# Altium footprint library M0M10XP0.PcbLib: 1 footprints
Each footprint in its own frame and in the unit in brackets; x right, y up, seen from the top. Pads: shape width x height; smd on the part's side, far side on the other; paste and mask are expansions set on the pad; w line width, h text height; cw(c..) or ccw(c..) is an arc to the next point about the centre after c.
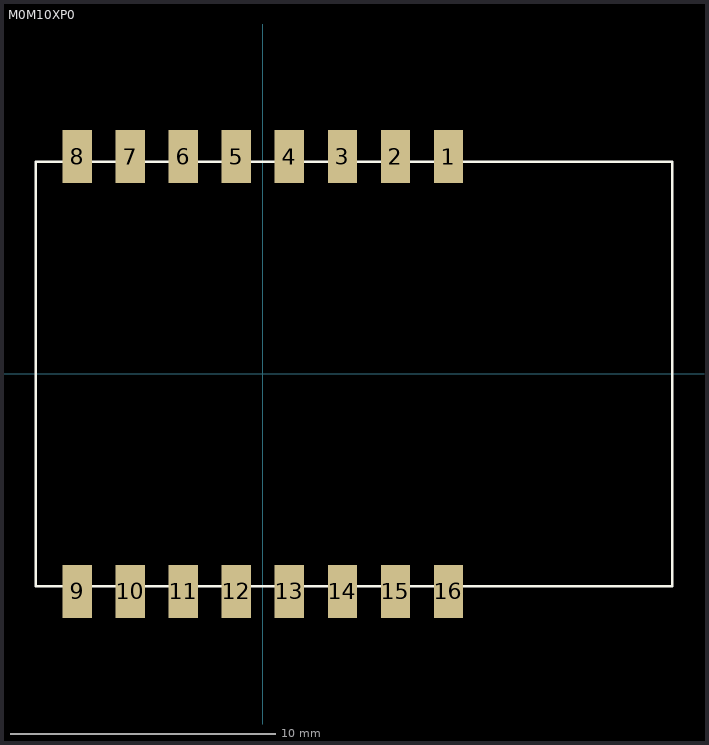
[diagram p0: the footprint, top view; thin cyan lines are the x and y axes]

## M0M10XP0 [mm] "M0M10XP0"
height 3.048
pads (16):
  rect 1.1x2 smd: 1(7,8.2) 2(5,8.2) 3(3,8.2) 4(1,8.2) 5(-1,8.2) 6(-3,8.2) 7(-5,8.2) 8(-7,8.2) 9(-7,-8.2) 10(-5,-8.2) 11(-3,-8.2) 12(-1,-8.2) 13(1,-8.2) 14(3,-8.2) 15(5,-8.2) 16(7,-8.2)
Top Overlay:
  lines w0.1: -8.56,-8 -8.56,8 15.44,8 15.44,-8 -8.56,-8
Mechanical 7:
  text "14" at 3,-7.692 h0.64
  text "11" at -3,-7.692 h0.64
  text "12" at -1,-7.692 h0.64
  text "10" at -5,-7.692 h0.64
  text "7" at -5,8.454 h0.64
  text "6" at -3,8.454 h0.64
  text "5" at -1,8.454 h0.64
  text "4" at 1,8.454 h0.64
  text "3" at 3,8.454 h0.64
  text "2" at 5,8.454 h0.64
  text "1" at 7,8.454 h0.64
  text "13" at 1,-7.692 h0.64
  text "15" at 5,-7.692 h0.64
  text "16" at 7,-7.692 h0.64
  text "8" at -7,8.454 h0.64
  text "9" at -7,-7.946 h0.64